# Altium schematic symbol library ThermalCamSchLib.SchLib: 8 symbols
Pins are listed as number, name and electrical type; pins without a type are passive.

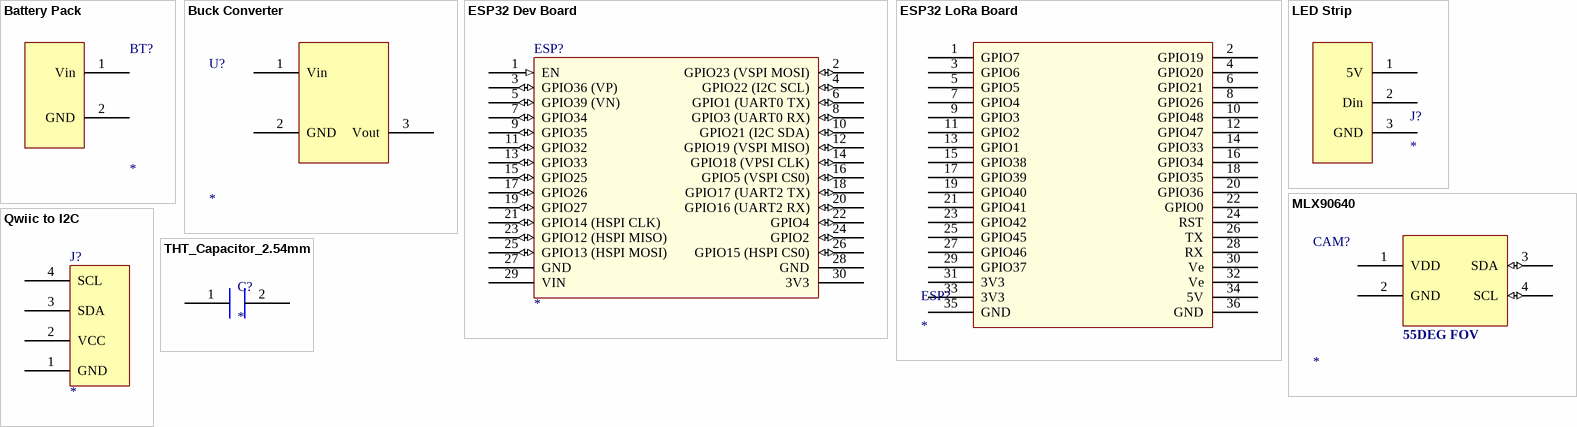
[diagram p0: symbols Battery Pack to THT_Capacitor_2.54mm]

## Battery Pack
designator BT?
footprint Battery Pads
pins: 1 Vin, 2 GND

## Buck Converter
designator U?
footprint BuckConverter
pins: 1 Vin, 2 GND, 3 Vout

## ESP32 Dev Board
designator ESP?
footprint ESP32_DevKitC
pins: 1 EN (in), 2 GPIO23 (VSPI MOSI) (io), 3 GPIO36 (VP) (io), 4 GPIO22 (I2C SCL) (io), 5 GPIO39 (VN) (io), 6 GPIO1 (UART0 TX) (io), 7 GPIO34 (io), 8 GPIO3 (UART0 RX) (io), 9 GPIO35 (io), 10 GPIO21 (I2C SDA) (io), 11 GPIO32 (io), 12 GPIO19 (VSPI MISO) (io), 13 GPIO33 (io), 14 GPIO18 (VPSI CLK) (io), 15 GPIO25 (io), 16 GPIO5 (VSPI CS0) (io), 17 GPIO26 (io), 18 GPIO17 (UART2 TX) (io), 19 GPIO27 (io), 20 GPIO16 (UART2 RX) (io), 21 GPIO14 (HSPI CLK) (io), 22 GPIO4 (io), 23 GPIO12 (HSPI MISO) (io), 24 GPIO2 (io), 25 GPIO13 (HSPI MOSI) (io), 26 GPIO15 (HSPI CS0) (io), 27 GND, 28 GND, 29 VIN, 30 3V3

## ESP32 LoRa Board
designator ESP?
footprint ESP32 LoRa Board
pins: 1 GPIO7, 2 GPIO19, 3 GPIO6, 4 GPIO20, 5 GPIO5, 6 GPIO21, 7 GPIO4, 8 GPIO26, 9 GPIO3, 10 GPIO48, 11 GPIO2, 12 GPIO47, 13 GPIO1, 14 GPIO33, 15 GPIO38, 16 GPIO34, 17 GPIO39, 18 GPIO35, 19 GPIO40, 20 GPIO36, 21 GPIO41, 22 GPIO0, 23 GPIO42, 24 RST, 25 GPIO45, 26 TX, 27 GPIO46, 28 RX, 29 GPIO37, 30 Ve, 31 3V3, 32 Ve, 33 3V3, 34 5V, 35 GND, 36 GND

## LED Strip
designator J?
footprint LED Strip
pins: 1 5V, 2 Din, 3 GND

## MLX90640
designator CAM?
footprint MLX90640
pins: 1 VDD, 2 GND, 3 SDA (io), 4 SCL (io)
text: 55DEG FOV

## Qwiic to I2C
designator J?
pins: 1 GND, 2 VCC, 3 SDA, 4 SCL

## THT_Capacitor_2.54mm
designator C?
footprint THT_Capacitor_2.54mm_Small
pins: 1 GND, 2 GND